# Altium schematic symbol library n-mosfet_GDS.Schlib: 1 symbol
Pins are listed as number, name and electrical type; pins without a type are passive.

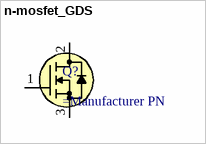
[diagram p0: symbol n-mosfet_GDS]

## n-mosfet_GDS
designator Q?
N-Channel MOSFET GDS w/ Body Diode 3 Terminal,
pins: 1 G, 2 D, 3 S